# EAGLE library part ON/OFF_SWITCH (library NOVA_parts)
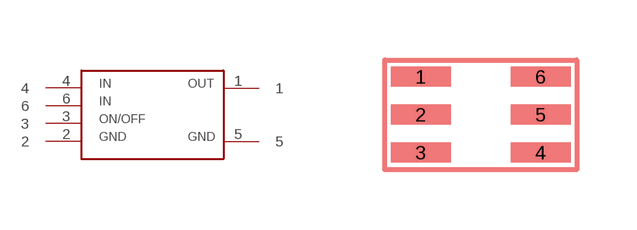
[diagram p0: symbol with the pads of ON/OFF_SWITCH; footprint ON/OFF_SWITCH]

Designator prefix -

## ON/OFF_SWITCH  [ON/OFF_SWITCH]
1  1
2  2
3  3
4  4
5  5
6  6

## Footprint ON/OFF_SWITCH (pad centres in mm)
smd 1.5 x 0.5: 1 -1.5,0.93; 2 -1.5,-0.02; 3 -1.5,-0.97; 4 1.5,-0.97; 5 1.5,-0.02; 6 1.5,0.93